# Altium schematic symbol library CAP_SMD.SchLib: 6 symbols
Pins are listed as number, name and electrical type; pins without a type are passive.

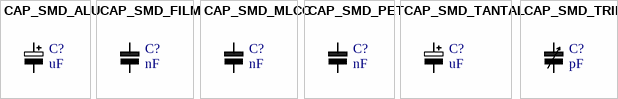
[diagram p0: symbols CAP_SMD_ALU to CAP_SMD_TRIM]

## CAP_SMD_ALU
designator C?, comment uF
Value: uF
footprint CAP ALSMD POLY 4.3MM H5.5MM (Aluminum Polymer Capacitor, Body 4.30x4.30x5.50mm, IPC Low Density)
footprint CAP ALSMD POLY 5.3MM H4.2MM (Aluminum Polymer Capacitor, Body 5.30x5.30x4.20mm, IPC Medium Density)
footprint CAP ALSMD POLY 5.3MM H4.5MM (Aluminum Polymer Capacitor, Body 5.30x5.30x4.50mm, IPC Medium Density)
footprint CAP ALSMD POLY 5.3MM H4.8MM (Aluminum Polymer Capacitor, Body 5.30x5.30x4.80mm, IPC Medium Density)
footprint CAP ALSMD POLY 5.3MM H5.5MM (Aluminum Polymer Capacitor, Body 5.30x5.30x5.50mm, IPC Medium Density)
footprint CAP ALSMD POLY 5.3MM H5.7MM (Aluminum Polymer Capacitor, Body 5.30x5.30x5.70mm, IPC Medium Density)
footprint CAP ALSMD POLY 5.3MM H5.8MM (Aluminum Polymer Capacitor, Body 5.30x5.30x5.80mm, IPC Medium Density)
footprint CAP ALSMD POLY 5.3MM H6.0MM (Aluminum Polymer Capacitor, Body 5.30x5.30x6.0mm, IPC Medium Density)
footprint CAP ALSMD POLY 5.3MM H6.1MM (Aluminum Polymer Capacitor, Body 5.30x5.30x6.1mm, IPC Medium Density)
footprint CAP ALSMD POLY 6.3MM H5.8MM (Electrolytic Cap, D: 6.3mm L: 5.8mm, Size D)
footprint CAP ALSMD POLY 8.3MM H6.0MM (Aluminum Electrolytic Capacitor, Body 8.30x8.30x6.0mm)
footprint CAP ALSMD POLY 8.3MM H6.7MM (Aluminum Electrolytic Capacitor, Body 8.30x8.30x6.7mm)
footprint CAP ALSMD POLY 8.3MM H7.0MM (Aluminum Electrolytic Capacitor, Body 8.30x8.30x7mm)
footprint CAP ALSMD POLY 8.3MM H7.7MM (Aluminum Electrolytic Capacitor, Body 8.30x8.30x7.7mm)
footprint CAP ALSMD POLY 8.3MM H7.8MM (Aluminum Electrolytic Capacitor, Body 8.30x8.30x7.8mm)
footprint CAP ALSMD POLY 8.3MM H8.0MM (Aluminum Electrolytic Capacitor, Body 8.30x8.30x8.0mm)
footprint CAP ALSMD POLY 8.3MM H8.7MM (Aluminum Electrolytic Capacitor, Body 8.30x8.30x8.7mm)
footprint CAP ALSMD POLY 8.3MM H9.0MM (Aluminum Electrolytic Capacitor, Body 8.30x8.30x9.0mm)
footprint CAP ALSMD POLY 8.3MM H10.0MM (Aluminum Electrolytic Capacitor, Body 8.30x8.30x10.0mm)
footprint CAP ALSMD POLY 8.3MM H10.5MM (Aluminum Electrolytic Capacitor, Body 8.30x8.30x10.5mm)
footprint CAP ALSMD POLY 8.3MM H11.7MM (Aluminum Electrolytic Capacitor, Body 8.30x8.30x11.7mm)
footprint CAP ALSMD POLY 8.3MM H12.0MM (Aluminum Electrolytic Capacitor, Body 8.30x8.30x12mm)
footprint CAP ALSMD POLY 10.3MM H10.5MM (Aluminum Electrolytic Capacitor, Body 10.30x10.30x10.50mm, IPC Low Density)
footprint CAP ALSMD POLY 10.3MM H12.0MM (Aluminum Electrolytic Capacitor, Body 10.30x10.30x12.00mm, IPC Low Density)
footprint CAP ALSMD POLY 12.0MM H13.0MM (Aluminum Electrolytic Capacitor, Body 12.0x12.0x13.00mm, IPC Low Density)
pins: 1, 2

## CAP_SMD_FILM
designator C?, comment nF
Value: nF
footprint CAP FILM 0603_1608 (Chip Capacitor, 2-Leads, Body 1.60x0.80mm, IPC Medium Density)
footprint CAP FILM 0805 (J2, Film Capacitor PPS , 2-Leads, Body 2.00x1.25mm, IPC Medium Density)
footprint CAP FILM 1206 (H1, Film Capacitor PPS, 2-Leads, Body 3.20x1.60mm, IPC Medium Density)
footprint CAP FILM 1210 (G2, Film Capacitor PPS, 2-Leads, Body 3.20x2.50mm, IPC Medium Density)
footprint CAP FILM 2416 (D1, Film Capacitor PPS, 2-Leads, Body 6.00x4.10mm, IPC Medium Density)
pins: 1, 2

## CAP_SMD_MLCC
designator C?, comment nF
Value: nF
footprint CAP 0201_0603 (Chip Capacitor, 2-Leads, Body 0.60x0.30mm, IPC Medium Density)
footprint CAP 0201_0603 RF (Chip Capacitor, 2-Leads, Body 0.60x0.30mm, IPC High Density)
footprint CAP 0402_1005 (Chip Capacitor, 2-Leads, Body 1.02x0.51mm, IPC Medium Density)
footprint CAP 0402_1005 RF (Chip Capacitor, 2-Leads, Body 1.02x0.51mm, IPC High Density)
footprint CAP 0603_1608 (Chip Capacitor, 2-Leads, Body 1.60x0.80mm, IPC Medium Density)
footprint CAP 0603_1608 RF (Chip Capacitor, 2-Leads, Body 1.60x0.80mm, IPC High Density)
footprint CAP 0805_2012 (Chip Capacitor, 2-Leads, Body 2.00x1.20mm, IPC Medium Density)
footprint CAP 0805_2012 RF (Chip Capacitor, 2-Leads, Body 2.00x1.20mm, IPC High Density)
footprint CAP 1206_3216 (Chip Capacitor, 2-Leads, Body 3.25x1.60mm, IPC Medium Density)
footprint CAP 1206_3216 - 0.8MM (Chip Capacitor, 2-Leads, Body 3.25x1.60mm, IPC Medium Density)
footprint CAP 1206_3216 - 1.0MM (Chip Capacitor, 2-Leads, Body 3.25x1.60mm, IPC Medium Density)
footprint CAP 1206_3216 - 1.2MM (Chip Capacitor, 2-Leads, Body 3.25x1.60mm, IPC Medium Density)
footprint CAP 1206_3216 - 1.8MM (Chip Capacitor, 2-Leads, Body 3.25x1.60mm, IPC Medium Density)
footprint CAP 1210_3225 - 1MM (Chip Capacitor, 2-Leads, Body 3.20x2.50mm, IPC Medium Density)
footprint CAP 1210_3225 - 2.0MM (Chip Capacitor, 2-Leads, Body 3.20x2.50mm, IPC Medium Density)
footprint CAP 1210_3225 - 2.2MM (Chip Capacitor, 2-Leads, Body 3.20x2.50mm, IPC Medium Density)
footprint CAP 1210_3225 - 2.5MM (Chip Capacitor, 2-Leads, Body 3.20x2.50mm, IPC Medium Density)
footprint CAP 1210_3225 - 2.8MM (Chip Capacitor, 2-Leads, Body 3.20x2.50mm, IPC Medium Density)
footprint CAP 1812_4532 1.1MM (Chip Capacitor, 2-Leads, Body 4.50x3.20mm, IPC Medium Density)
footprint CAP 1812_4532 1.35MM (Chip Capacitor, 2-Leads, Body 4.50x3.20mm, IPC Medium Density)
footprint CAP 1812_4532 1.5MM (Chip Capacitor, 2-Leads, Body 4.50x3.20mm, IPC Medium Density)
footprint CAP 1812_4532 1.75MM (Chip Capacitor, 2-Leads, Body 4.50x3.20mm, IPC Medium Density)
footprint CAP 1812_4532 2.00MM (Chip Capacitor, 2-Leads, Body 4.50x3.20mm, IPC Medium Density)
footprint CAP 1812_4532 2.20MM (Chip Capacitor, 2-Leads, Body 4.50x3.20mm, IPC Medium Density)
footprint CAP 1812_4532 2.55MM (Chip Capacitor, 2-Leads, Body 4.50x3.20mm, IPC Medium Density)
footprint CAP 1812_4532 2.8MM (Chip Capacitor, 2-Leads, Body 4.50x3.20mm, IPC Medium Density)
footprint CAP 1812_4532 3.5MM (Chip Capacitor, 2-Leads, Body 4.50x3.20mm, IPC Medium Density)
footprint CAP 2220_5650 1.5MM (Chip Capacitor, 2-Leads, Body 5.70x5.00mm, IPC Medium Density)
footprint CAP 2220_5650 2.0MM (Chip Capacitor, 2-Leads, Body 5.70x5.00mm, IPC Medium Density)
footprint CAP 2220_5650 2.5MM (Chip Capacitor, 2-Leads, Body 5.70x5.00mm, IPC Medium Density)
footprint CAP 2220_5650 3.0MM (Chip Capacitor, 2-Leads, Body 5.70x5.00mm, IPC Medium Density)
footprint CAP 2220_5650 3.3MM (Chip Capacitor, 2-Leads, Body 5.70x5.00mm, IPC Medium Density)
footprint CAP 2220_5650 4.2MM (Chip Capacitor, 2-Leads, Body 5.70x5.00mm, IPC Medium Density)
footprint TDK CKG57N (Chip Capacitor, 2-Leads, Body 6.00x5.00mm, IPC Medium Density)
pins: 1, 2

## CAP_SMD_PET
designator C?, comment nF
Value: nF
footprint C PET 1812(4532)x3
footprint C PET 1812(4532)x4
footprint C PET 2220(5750)x3.5
footprint C PET 2220(5750)x4.5
footprint C PET 2824(7261)x3
footprint C PET 2824(7261)x5
pins: 1, 2

## CAP_SMD_TANTAL
designator C?, comment uF
Value: uF
footprint CD A(3216) (ł¤3.2mmŁ¬żí1.6mmŁ¬şń1.6mm)
footprint CD B(3528) (ł¤3.5mmŁ¬żí2.8mmŁ¬şń1.9mm)
footprint CD C(6032) (ł¤6.0mmŁ¬żí3.2mmŁ¬şń2.5mm)
footprint CD D(7343) (ł¤7.3mmŁ¬żí4.3mmŁ¬şń2.8mm)
footprint CD E(7343H) (ł¤7.3mmŁ¬żí4.3mmŁ¬şń4.0mm)
footprint CD S(2012) (ł¤2.0mmŁ¬żí1.25mmŁ¬şń1.2mm)
pins: 1, 2

## CAP_SMD_TRIM
designator C?, comment pF
Value: pF
footprint C Tr SMD3
footprint C_TRM_1715 (Cap, Trimmer TZR1 1.7mmX1.5mm)
footprint C_TRM_3225 (Cap, Trimmer TZY2 3.2mmX2.5mm)
footprint C_TRM_4532 (Cap, Trimmer TZC3 4.5X3.2mm)
footprint C_TRM_4842 (Cap, Trimmer SMD 4.8x4.2mm)
pins: 1, 2